# Altium footprint library SOIC8-150.PcbLib: 1 footprints
Each footprint in its own frame and in the unit in brackets; x right, y up, seen from the top. Pads: shape width x height; smd on the part's side, far side on the other; paste and mask are expansions set on the pad; w line width, h text height; cw(c..) or ccw(c..) is an arc to the next point about the centre after c.
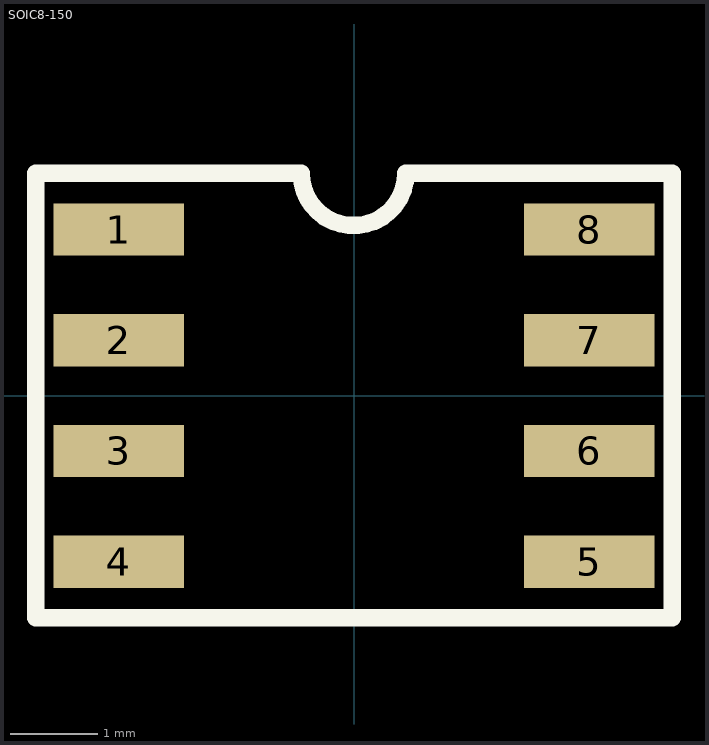
[diagram p0: the footprint, top view; thin cyan lines are the x and y axes]

## SOIC8-150 [mm]
pads (8):
  rect 1.5x0.6 smd: 1(-2.7,1.905) 2(-2.7,0.635) 3(-2.7,-0.635) 4(-2.7,-1.905) 5(2.7,-1.905) 6(2.7,-0.635) 7(2.7,0.635) 8(2.7,1.905)
Top Overlay:
  lines w0.2: -3.65,-2.55 3.65,-2.55 3.65,2.55 0.595,2.55 cw(c-0.005,2.55) -0.605,2.55 -3.65,2.55 -3.65,-2.55
Top Assembly:
  lines w0.1: -3.65,-2.55 3.65,-2.55 3.65,2.55 0.6,2.55 cw(c0,2.55) -0.6,2.55 -3.65,2.55 -3.65,-2.55
  text "'.Designator'" at -0.925,-0.35 h0.7
3D body "User Library-SOIC-8-1.step": height 1.75, standoff 0, extent -3,-2.45 3,2.45